# EAGLE library part MCP2551 (library ds_ic_peripherals)
High-speed CAN Transceiver
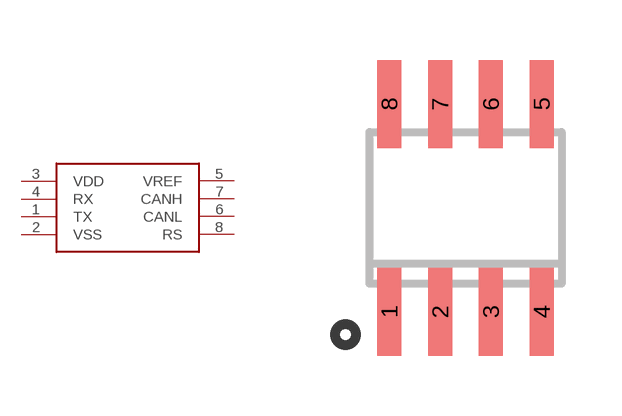
[diagram p15: symbol with the pads of SO8; footprint SO8]

Designator prefix MCP2551

## MCP2551  [SO8]
1  TX
2  VSS
3  VDD
4  RX
5  VREF
6  CANL
7  CANH
8  RS

## Footprint SO8 (pad centres in mm)
SMALL OUTLINE INTEGRATED CIRCUIT
smd 0.6 x 2.2: 1 -1.905,-2.6; 2 -0.635,-2.6; 3 0.635,-2.6; 4 1.905,-2.6; 5 1.905,2.6; 6 0.635,2.6; 7 -0.635,2.6; 8 -1.905,2.6